# Altium footprint library AD5162BRMZ10.PcbLib: 2 footprints
Each footprint in its own frame and in the unit in brackets; x right, y up, seen from the top. Pads: shape width x height; smd on the part's side, far side on the other; paste and mask are expansions set on the pad; w line width, h text height; cw(c..) or ccw(c..) is an arc to the next point about the centre after c.
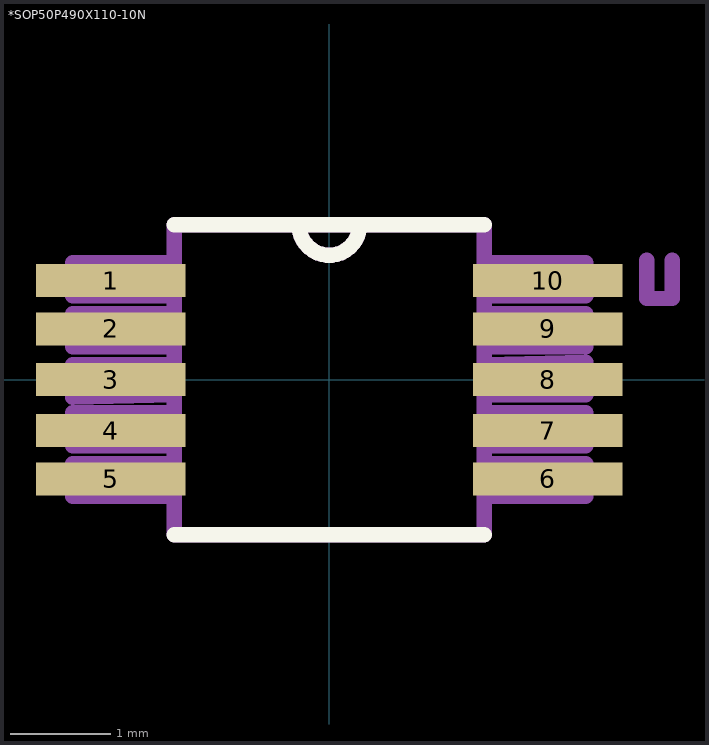
[diagram p0: the footprints below, top view; thin cyan lines are the x and y axes]

## *SOP50P490X110-10N [mil]
pads (10):
  rect 59x13 smd: 1(-86,39) 2(-86,20) 3(-86,0) 4(-86,-20) 5(-86,-39) 6(86,-39) 7(86,-20) 8(86,0) 9(86,20) 10(86,39)
Top Overlay:
  lines w6: -61,-61 61,-61 ; -61,61 -12,61 ; 61,61 12,61 ; -12,61 ccw(c0,61) 12,61 ; -12,61 12,61
Mechanical 4:
  lines w6: -101,-46 -61,-46 ; -101,-46 -101,-33 ; -101,-46 -61,-46 ; -101,-46 -101,-33 ; -101,-33 -61,-33 ; -101,-33 -61,-33 ; -101,-26 -61,-26 ; -101,-26 -101,-13 ; -101,-26 -61,-26 ; -101,-26 -101,-13 ; -101,-13 -61,-13 ; -101,-13 -61,-13 ; -101,-7 -61,-6 ; -101,-7 -101,6 ; -101,-7 -61,-6 ; -101,-7 -101,6 ; -101,6 -61,6 ; -101,6 -61,6 ; -101,13 -61,13 ; -101,13 -101,26 ; -101,13 -61,13 ; -101,13 -101,26 ; -101,26 -61,26 ; -101,26 -61,26 ; -101,33 -61,33 ; -101,33 -101,46 ; -101,33 -61,33 ; -101,33 -101,46 ; -101,46 -61,46 ; -101,46 -61,46 ; -61,-61 -61,61 ; -61,-61 61,-61 ; -61,-61 -61,61 ; -61,-61 61,-61 ; -61,-46 -61,-33 ; -61,-46 -61,-33 ; -61,-26 -61,-13 ; -61,-26 -61,-13 ; -61,-6 -61,6 ; -61,-6 -61,6 ; -61,13 -61,26 ; -61,13 -61,26 ; -61,33 -61,46 ; -61,33 -61,46 ; -61,61 -12,61 ; -61,61 -12,61 ; -12,61 ccw(c0,61) 12,61 ; -12,61 ccw(c0,61) 12,61 ; -12,61 12,61 ; -12,61 12,61 ; 12,61 61,61 ; 12,61 61,61 ; 61,-61 61,61 ; 61,-61 61,61 ; 61,-46 101,-46 ; 61,-46 61,-33 ; 61,-46 101,-46 ; 61,-46 61,-33 ; 61,-33 101,-33 ; 61,-33 101,-33 ; 61,-26 101,-26 ; 61,-26 61,-13 ; 61,-26 101,-26 ; 61,-26 61,-13 ; 61,-13 101,-13 ; 61,-13 101,-13 ; 61,-6 101,-6 ; 61,-6 61,6 ; 61,-6 101,-6 ; 61,-6 61,6 ; 61,6 101,7 ; 61,6 101,7 ; 61,13 101,13 ; 61,13 61,26 ; 61,13 101,13 ; 61,13 61,26 ; 61,26 101,26 ; 61,26 101,26 ; 61,33 101,33 ; 61,33 61,46 ; 61,33 101,33 ; 61,33 61,46 ; 61,46 101,46 ; 61,46 101,46 ; 101,-46 101,-33 ; 101,-46 101,-33 ; 101,-26 101,-13 ; 101,-26 101,-13 ; 101,-6 101,7 ; 101,-6 101,7 ; 101,13 101,26 ; 101,13 101,26 ; 101,33 101,46 ; 101,33 101,46 ; 125,32 125,47 125,32 ; 125,32 135,32 ; 125,32 135,32 ; 135,32 135,47 135,32
  text "*" at -118.37,37.31 h73.82
  text "*" at -118.37,37.31 h73.82

## PCBComponent_1 [mil]